# Altium schematic symbol library Memory_IC.SchLib: 4 symbols
Pins are listed as number, name and electrical type; pins without a type are passive.

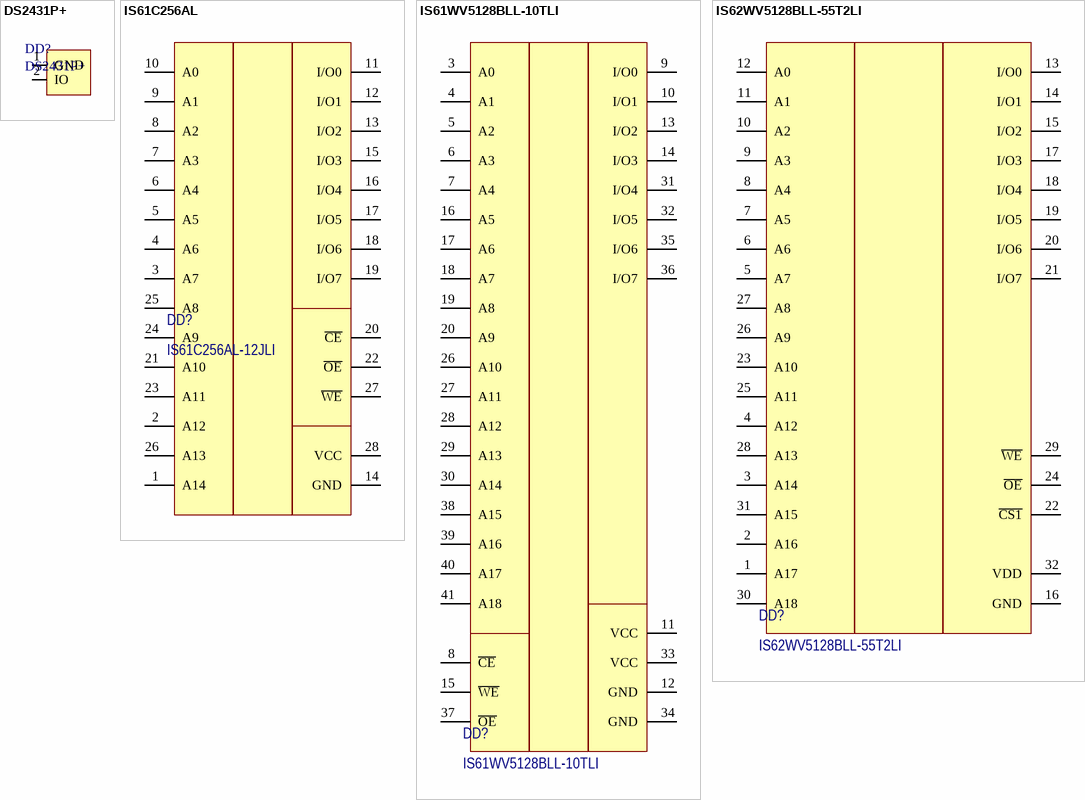
[diagram p0: symbols DS2431P+ to IS62WV5128BLL-55T2LI]

## DS2431P+
designator DD?
IC, EEPROM, 1KBIT, SERIAL, TSOC-6; Manufacturer: Maxim; Density: 1Kb; Max Supply Voltage: 5.25V; Min Supply Voltage: 2.8V; Memory Size: 1024b; Operating Supply Voltage: 5V; Number of Words: 256; Supplier 1: Mouser; Manufacturer Part Number: DS2431P+; Stock 1: 12326; Pricing 1: 1=1.64, 10=1.51, 50=1.27, 100=1.24, 1000=0.869, 10000=0.848 (USD); Mount: Surface Mount; Number of Pins: 6; Contact Plating: Tin,Matte; Min Operating Temperature: -40°C; Max Operating Temperature: 85°C; Interface: Serial; Packaging: Rail/Tube; Package Quantity: 120; Memory Type: EEPROM; Length: 4mm; Height: 1.5mm; Width: 3.89mm; Radiation Hardening: No; REACH SVHC: No SVHC; Lead Free: Lead Free; ComponentLink1URL: https://datasheet.ciiva.com/1636/1520260-1636692.pdf; ComponentLink1Description: https://datasheet.ciiva.com/1636/1520260-1636692.pdf; ComponentLink2URL: https://datasheet.ciiva.com/7654/1718768-7654632.pdf; ComponentLink2Description: https://datasheet.ciiva.com/7654/1718768-7654632.pdf; ComponentLink3URL: https://datasheet.ciiva.com/26871/ds2431p-26871413.pdf; ComponentLink3Description: https://datasheet.ciiva.com/26871/ds2431p-26871413.pdf; ComponentLink4URL: https://datasheet.ciiva.com/16922/70127804-16922006.pdf; ComponentLink4Description: https://datasheet.ciiva.com/16922/70127804-16922006.pdf; ComponentLink5URL: https://datasheet.ciiva.com/16623/ds2431-16623226.pdf; ComponentLink5Description: https://datasheet.ciiva.com/16623/ds2431-16623226.pdf; ComponentLink6URL: https://datasheet.ciiva.com/1906/ds2431-1906891.pdf; ComponentLink6Description: https://datasheet.ciiva.com/1906/ds2431-1906891.pdf; Supplier Part Number 1: 700-DS2431P
pins: 1 GND (power), 2 IO (io)

## IS61C256AL
designator DD?, comment IS61C256AL-12JLI
IC SRAM 256KBIT 12NS 28SOJ; Manufacturer: ISSI, Integrated Silicon Solution Inc; ManufacturerPartNumber: IS61C256AL-12JLI; ComponentLink1URL: http://www.issi.com/WW/pdf/61C256AL.pdf; ComponentLink1Description: http://www.issi.com/WW/pdf/61C256AL.pdf; Note: *; Price: *; Supplier: *
footprint SOJ127P850X376-28M (SOJ, 28-Leads, Body 18,54x8,54mm, Pitch 1,27mm, IPC Low Density)
pins: 1 A14, 2 A12, 3 A7, 4 A6, 5 A5, 6 A4, 7 A3, 8 A2, 9 A1, 10 A0, 11 I/O0, 12 I/O1, 13 I/O2, 14 GND, 15 I/O3, 16 I/O4, 17 I/O5, 18 I/O6, 19 I/O7, 20 ~{CE}, 21 A10, 22 ~{OE}, 23 A11, 24 A9, 25 A8, 26 A13, 27 ~{WE}, 28 VCC

## IS61WV5128BLL-10TLI
designator DD?
IC SRAM 4MBIT 10NS 44TSOP; Manufacturer: ISSI, Integrated Silicon Solution Inc; ManufacturerPartNumber: IS61WV5128BLL-10TLI; ComponentLink1URL: http://www.issi.com/WW/pdf/61-64WV5128Axx-Bxx.pdf; ComponentLink1Description: http://www.issi.com/WW/pdf/61-64WV5128Axx-Bxx.pdf; Note: *; Price: 283; Supplier: *
footprint TSOP80P1180X120-44N (TSOP, 44-Leads, Body 18,41x10,16mm, Pitch 0,80mm, IPC Medium Density)
pins: 1 NC hidden, 2 NC hidden, 3 A0, 4 A1, 5 A2, 6 A3, 7 A4, 8 ~{CE}, 9 I/O0, 10 I/O1, 11 VCC, 12 GND, 13 I/O2, 14 I/O3, 15 ~{WE}, 16 A5, 17 A6, 18 A7, 19 A8, 20 A9, 21 NC hidden, 22 NC hidden, 23 NC hidden, 24 NC hidden, 25 NC hidden, 26 A10, 27 A11, 28 A12, 29 A13, 30 A14, 31 I/O4, 32 I/O5, 33 VCC, 34 GND, 35 I/O6, 36 I/O7, 37 ~{OE}, 38 A15, 39 A16, 40 A17, 41 A18, 42 NC hidden, 43 NC hidden, 44 NC hidden

## IS62WV5128BLL-55T2LI
designator DD?
IC SRAM 4MBIT 55NS 32TSOP; Manufacturer: ISSI, Integrated Silicon Solution Inc; ManufacturerPartNumber: IS62WV5128BLL-55T2LI; ComponentLink1URL: http://media.digikey.com/pdf/Data%20Sheets/ISSI%20PDFs/IS62WV5128(A,B)LL.pdf; ComponentLink1Description: http://media.digikey.com/pdf/Data%20Sheets/ISSI%20PDFs/IS62WV5128(A,B)LL.pdf; Note: *; Price: 300; Supplier: *
footprint TSOP127P1180X120-32N (TSOP, 32-Leads, Body 20,95x10,16mm, Pitch 1,27mm, IPC Medium Density)
pins: 1 A17, 2 A16, 3 A14, 4 A12, 5 A7, 6 A6, 7 A5, 8 A4, 9 A3, 10 A2, 11 A1, 12 A0, 13 I/O0, 14 I/O1, 15 I/O2, 16 GND, 17 I/O3, 18 I/O4, 19 I/O5, 20 I/O6, 21 I/O7, 22 ~{CS1}, 23 A10, 24 ~{OE}, 25 A11, 26 A9, 27 A8, 28 A13, 29 ~{WE}, 30 A18, 31 A15, 32 VDD